# EAGLE library part HMC472LP4 (library attenuators-hittite)
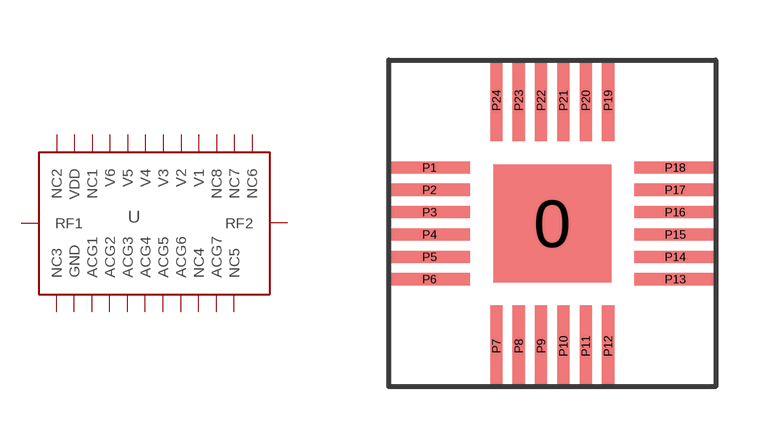
[diagram p0: symbol with the pads of MMIC; footprint MMIC]

Designator prefix -

## HMC472LP4  [MMIC]
0  GND
P1  NC1
P2  VDD
P3  NC2
P4  RF1
P5  NC3
P6  ACG1
P7  ACG2
P8  ACG3
P9  ACG4
P10  ACG5
P11  ACG6
P12  NC4
P13  ACG7
P14  NC5
P15  RF2
P16  NC6
P17  NC7
P18  NC8
P19  V1
P20  V2
P21  V3
P22  V4
P23  V5
P24  V6

## Footprint MMIC (pad centres in mm)
smd 2.946 x 2.946: 0 0,0
smd 2.032 x 0.305: P1 -3.073,1.397; P2 -3.073,0.838; P3 -3.073,0.279; P4 -3.073,-0.279; P5 -3.073,-0.838; P6 -3.073,-1.397; P13 3.073,-1.397; P14 3.073,-0.838; P15 3.073,-0.279; P16 3.073,0.279; P17 3.073,0.838; P18 3.073,1.397
smd 0.305 x 2.032: P7 -1.397,-3.073; P8 -0.838,-3.073; P9 -0.279,-3.073; P10 0.279,-3.073; P11 0.838,-3.073; P12 1.397,-3.073; P19 1.397,3.073; P20 0.838,3.073; P21 0.279,3.073; P22 -0.279,3.073; P23 -0.838,3.073; P24 -1.397,3.073